# Altium integrated library TI Data Converters Analog to Digital Converter.IntLib: 2198 symbols (part 74 of 164)
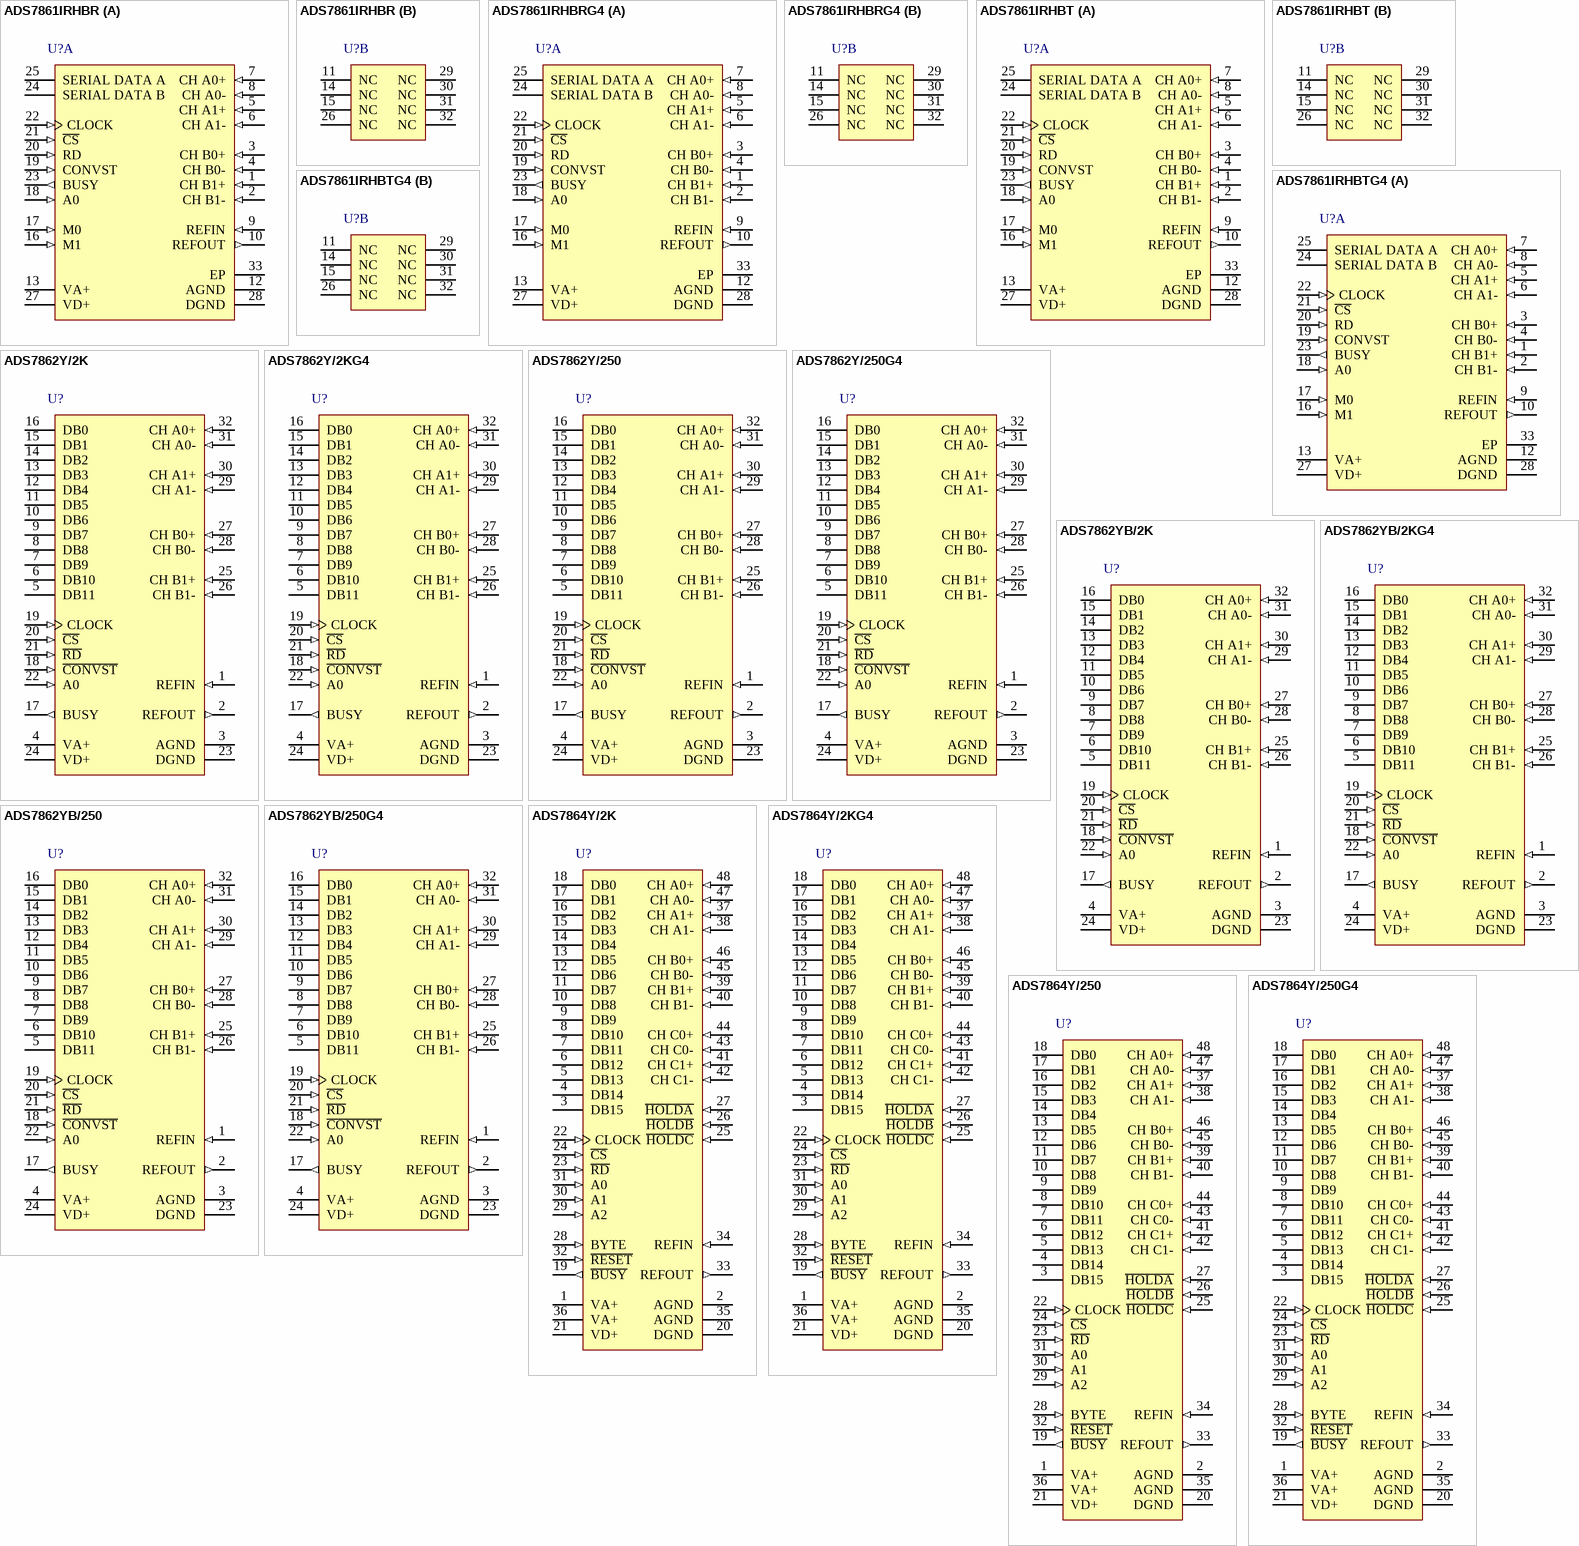
[diagram p199: symbols ADS7861IRHBR to ADS7864Y/250G4]

## ADS7862Y/2KG4
designator U?
Dual, 500 kHz, 12-Bit, 4-Channel Simultaneous Sampling ADC, -40 to 85 degC, 32-pin QFP (PBS32), Green (RoHS & no Sb/Br); Manufacturer: Texas Instruments; PartNumber: ADS7862Y/2KG4; # Input Channels: 4; Analog Voltage AV/DD(Max)(V): 5.25; Analog Voltage AV/DD(Min)(V): 4.75; Architecture: SAR; INL(Max)(+/-LSB): 2; Interface: Parallel CMOS; Resolution(Bits): 12; Sample Rate (max)(SPS): 500K; SFDR(dB): 78; SINAD(dB): 71; SubFamily: Precision ADC (<=10MSPS); DatasheetVersion: SBAS101B; PackageVersion: 4087735/B, 07/2005; PackageReference: PBS32; PackageDescription: 32-Pin Plastic Flat Pack, Body 5 X 5 mm, Pitch 0.5 mm; Supplier 1: Digi-Key; Supplier Part Number 1: ADS7861IBRHBR-ND; Digital Supply(Max)(V): 5.25; Digital Supply(Min)(V): 4.75; Eco-Plan: Green (RoHS & no Sb/Br); SNR(dB): 71; Mounting Technology: Surface Mount; Code_JEDEC: MS-026; ComponentLink1Description: Manufacturer URL; ComponentLink1URL: http://www.ti.com/; ComponentLink2Description: Datasheet; ComponentLink2URL: http://www.ti.com/general/docs/lit/getliterature.tsp?genericPartNumber=ADS7862&fileType=pdf; ComponentLink3Description: Package Specification; ComponentLink3URL: http://www.ti.com/lit/ml/mpqf027a/mpqf027a.pdf
footprint TI-PBS32_N (QFP, 32-Leads, Body 5x5mm, Pitch 0.5mm, IPC Medium Density)
footprint TI-PBS32_L (QFP, 32-Leads, Body 5x5mm, Pitch 0.5mm, IPC High Density)
footprint TI-PBS32_M (QFP, 32-Leads, Body 5x5mm, Pitch 0.5mm, IPC Low Density)
pins: 1 REFIN (in) "Reference Input", 2 REFOUT (out) "+2.5V Reference Output. Connect directly to REFIN (pin 1) when using internal reference.", 3 AGND (power) "Analog Ground", 4 VA+ (power) "Analog Power Supply, +5VDC. Connect directly to digital power supply (pin 24). Decouple to analog ground with a 0.1uF ceramic capacitor and a 10uF tantalum capacitor.", 5 DB11 (hiz) "Data Bit 11, MSB", 6 DB10 (hiz) "Data Bit 10", 7 DB9 (hiz) "Data Bit 9", 8 DB8 (hiz) "Data Bit 8", 9 DB7 (hiz) "Data Bit 7", 10 DB6 (hiz) "Data Bit 6", 11 DB5 (hiz) "Data Bit 5", 12 DB4 (hiz) "Data Bit 4", 13 DB3 (hiz) "Data Bit 3", 14 DB2 (hiz) "Data Bit 2", 15 DB1 (hiz) "Data Bit 1", 16 DB0 (hiz) "Data Bit 0, LSB", 17 BUSY (out) "HIGH when a conversion is in progress.", 18 ~{CONVST} (in) "Convert Start", 19 CLOCK (in) "An external CMOS-compatible clock can be applied to the CLOCK input to synchronize the conversion process to an external source. The CLOCK pin controls the sampling rate by the equation: CLOCK 16 X fSAMPLE.", 20 ~{CS} (in) "Chip Select", 21 ~{RD} (in) "Synchronization pulse for the parallel output. During a Read operation, the first falling edge selects the A register and the second edge selects the B register, A0, then controls whether input 0 or input 1 is read.", 22 A0 (in) "On the falling edge of Convert Start, when A0 is LOW Channel A0 and Channel B0 are converted and when it is HIGH, Channel A1 and Channel B1 are converted. During a Read operation, the first falling edge selects the A (See Datasheet)", 23 DGND (power) "Digital Ground. Connect directly to analog ground (pin 3).", 24 VD+ (power) "Digital Power Supply, +5VDC", 25 CH B1+ (in) "Non-Inverting Input Channel B1", 26 CH B1- (in) "Inverting Input Channel B1", 27 CH B0+ (in) "Non-Inverting Input Channel B0", 28 CH B0- (in) "Inverting Input Channel B0", 29 CH A1- (in) "Inverting Input Channel A1", 30 CH A1+ (in) "Non-Inverting Input Channel A1", 31 CH A0- (in) "Inverting Input Channel A0", 32 CH A0+ (in) "Non-Inverting Input Channel A0"

## ADS7862Y/250
designator U?
Dual, 500 kHz, 12-Bit, 4-Channel Simultaneous Sampling ADC, -40 to 85 degC, 32-pin QFP (PBS32), Green (RoHS & no Sb/Br); Manufacturer: Texas Instruments; PartNumber: ADS7862Y/250; # Input Channels: 4; Analog Voltage AV/DD(Max)(V): 5.25; Analog Voltage AV/DD(Min)(V): 4.75; Architecture: SAR; INL(Max)(+/-LSB): 2; Interface: Parallel CMOS; Resolution(Bits): 12; Sample Rate (max)(SPS): 500K; SFDR(dB): 78; SINAD(dB): 71; SubFamily: Precision ADC (<=10MSPS); DatasheetVersion: SBAS101B; PackageVersion: 4087735/B, 07/2005; PackageReference: PBS32; PackageDescription: 32-Pin Plastic Flat Pack, Body 5 X 5 mm, Pitch 0.5 mm; Supplier 1: Digi-Key; Supplier Part Number 1: ADS7861IBRHBRG4-ND; Digital Supply(Max)(V): 5.25; Digital Supply(Min)(V): 4.75; Eco-Plan: Green (RoHS & no Sb/Br); SNR(dB): 71; Mounting Technology: Surface Mount; Code_JEDEC: MS-026; ComponentLink1Description: Manufacturer URL; ComponentLink1URL: http://www.ti.com/; ComponentLink2Description: Datasheet; ComponentLink2URL: http://www.ti.com/general/docs/lit/getliterature.tsp?genericPartNumber=ADS7862&fileType=pdf; ComponentLink3Description: Package Specification; ComponentLink3URL: http://www.ti.com/lit/ml/mpqf027a/mpqf027a.pdf
footprint TI-PBS32_N (QFP, 32-Leads, Body 5x5mm, Pitch 0.5mm, IPC Medium Density)
footprint TI-PBS32_L (QFP, 32-Leads, Body 5x5mm, Pitch 0.5mm, IPC High Density)
footprint TI-PBS32_M (QFP, 32-Leads, Body 5x5mm, Pitch 0.5mm, IPC Low Density)
pins: 1 REFIN (in) "Reference Input", 2 REFOUT (out) "+2.5V Reference Output. Connect directly to REFIN (pin 1) when using internal reference.", 3 AGND (power) "Analog Ground", 4 VA+ (power) "Analog Power Supply, +5VDC. Connect directly to digital power supply (pin 24). Decouple to analog ground with a 0.1uF ceramic capacitor and a 10uF tantalum capacitor.", 5 DB11 (hiz) "Data Bit 11, MSB", 6 DB10 (hiz) "Data Bit 10", 7 DB9 (hiz) "Data Bit 9", 8 DB8 (hiz) "Data Bit 8", 9 DB7 (hiz) "Data Bit 7", 10 DB6 (hiz) "Data Bit 6", 11 DB5 (hiz) "Data Bit 5", 12 DB4 (hiz) "Data Bit 4", 13 DB3 (hiz) "Data Bit 3", 14 DB2 (hiz) "Data Bit 2", 15 DB1 (hiz) "Data Bit 1", 16 DB0 (hiz) "Data Bit 0, LSB", 17 BUSY (out) "HIGH when a conversion is in progress.", 18 ~{CONVST} (in) "Convert Start", 19 CLOCK (in) "An external CMOS-compatible clock can be applied to the CLOCK input to synchronize the conversion process to an external source. The CLOCK pin controls the sampling rate by the equation: CLOCK 16 X fSAMPLE.", 20 ~{CS} (in) "Chip Select", 21 ~{RD} (in) "Synchronization pulse for the parallel output. During a Read operation, the first falling edge selects the A register and the second edge selects the B register, A0, then controls whether input 0 or input 1 is read.", 22 A0 (in) "On the falling edge of Convert Start, when A0 is LOW Channel A0 and Channel B0 are converted and when it is HIGH, Channel A1 and Channel B1 are converted. During a Read operation, the first falling edge selects the A (See Datasheet)", 23 DGND (power) "Digital Ground. Connect directly to analog ground (pin 3).", 24 VD+ (power) "Digital Power Supply, +5VDC", 25 CH B1+ (in) "Non-Inverting Input Channel B1", 26 CH B1- (in) "Inverting Input Channel B1", 27 CH B0+ (in) "Non-Inverting Input Channel B0", 28 CH B0- (in) "Inverting Input Channel B0", 29 CH A1- (in) "Inverting Input Channel A1", 30 CH A1+ (in) "Non-Inverting Input Channel A1", 31 CH A0- (in) "Inverting Input Channel A0", 32 CH A0+ (in) "Non-Inverting Input Channel A0"

## ADS7862Y/250G4
designator U?
Dual, 500 kHz, 12-Bit, 4-Channel Simultaneous Sampling ADC, -40 to 85 degC, 32-pin QFP (PBS32), Green (RoHS & no Sb/Br); Manufacturer: Texas Instruments; PartNumber: ADS7862Y/250G4; # Input Channels: 4; Analog Voltage AV/DD(Max)(V): 5.25; Analog Voltage AV/DD(Min)(V): 4.75; Architecture: SAR; INL(Max)(+/-LSB): 2; Interface: Parallel CMOS; Resolution(Bits): 12; Sample Rate (max)(SPS): 500K; SFDR(dB): 78; SINAD(dB): 71; SubFamily: Precision ADC (<=10MSPS); DatasheetVersion: SBAS101B; PackageVersion: 4087735/B, 07/2005; PackageReference: PBS32; PackageDescription: 32-Pin Plastic Flat Pack, Body 5 X 5 mm, Pitch 0.5 mm; Supplier 1: Digi-Key; Supplier Part Number 1: 296-19570-2-ND; Digital Supply(Max)(V): 5.25; Digital Supply(Min)(V): 4.75; Eco-Plan: Green (RoHS & no Sb/Br); SNR(dB): 71; Mounting Technology: Surface Mount; Code_JEDEC: MS-026; ComponentLink1Description: Manufacturer URL; ComponentLink1URL: http://www.ti.com/; ComponentLink2Description: Datasheet; ComponentLink2URL: http://www.ti.com/general/docs/lit/getliterature.tsp?genericPartNumber=ADS7862&fileType=pdf; ComponentLink3Description: Package Specification; ComponentLink3URL: http://www.ti.com/lit/ml/mpqf027a/mpqf027a.pdf
footprint TI-PBS32_N (QFP, 32-Leads, Body 5x5mm, Pitch 0.5mm, IPC Medium Density)
footprint TI-PBS32_L (QFP, 32-Leads, Body 5x5mm, Pitch 0.5mm, IPC High Density)
footprint TI-PBS32_M (QFP, 32-Leads, Body 5x5mm, Pitch 0.5mm, IPC Low Density)
pins: 1 REFIN (in) "Reference Input", 2 REFOUT (out) "+2.5V Reference Output. Connect directly to REFIN (pin 1) when using internal reference.", 3 AGND (power) "Analog Ground", 4 VA+ (power) "Analog Power Supply, +5VDC. Connect directly to digital power supply (pin 24). Decouple to analog ground with a 0.1uF ceramic capacitor and a 10uF tantalum capacitor.", 5 DB11 (hiz) "Data Bit 11, MSB", 6 DB10 (hiz) "Data Bit 10", 7 DB9 (hiz) "Data Bit 9", 8 DB8 (hiz) "Data Bit 8", 9 DB7 (hiz) "Data Bit 7", 10 DB6 (hiz) "Data Bit 6", 11 DB5 (hiz) "Data Bit 5", 12 DB4 (hiz) "Data Bit 4", 13 DB3 (hiz) "Data Bit 3", 14 DB2 (hiz) "Data Bit 2", 15 DB1 (hiz) "Data Bit 1", 16 DB0 (hiz) "Data Bit 0, LSB", 17 BUSY (out) "HIGH when a conversion is in progress.", 18 ~{CONVST} (in) "Convert Start", 19 CLOCK (in) "An external CMOS-compatible clock can be applied to the CLOCK input to synchronize the conversion process to an external source. The CLOCK pin controls the sampling rate by the equation: CLOCK 16 X fSAMPLE.", 20 ~{CS} (in) "Chip Select", 21 ~{RD} (in) "Synchronization pulse for the parallel output. During a Read operation, the first falling edge selects the A register and the second edge selects the B register, A0, then controls whether input 0 or input 1 is read.", 22 A0 (in) "On the falling edge of Convert Start, when A0 is LOW Channel A0 and Channel B0 are converted and when it is HIGH, Channel A1 and Channel B1 are converted. During a Read operation, the first falling edge selects the A (See Datasheet)", 23 DGND (power) "Digital Ground. Connect directly to analog ground (pin 3).", 24 VD+ (power) "Digital Power Supply, +5VDC", 25 CH B1+ (in) "Non-Inverting Input Channel B1", 26 CH B1- (in) "Inverting Input Channel B1", 27 CH B0+ (in) "Non-Inverting Input Channel B0", 28 CH B0- (in) "Inverting Input Channel B0", 29 CH A1- (in) "Inverting Input Channel A1", 30 CH A1+ (in) "Non-Inverting Input Channel A1", 31 CH A0- (in) "Inverting Input Channel A0", 32 CH A0+ (in) "Non-Inverting Input Channel A0"

## ADS7862YB/2K
designator U?
Dual, 500 kHz, 12-Bit, 4-Channel Simultaneous Sampling ADC, -40 to 85 degC, 32-pin QFP (PBS32), Green (RoHS & no Sb/Br); Manufacturer: Texas Instruments; PartNumber: ADS7862YB/2K; # Input Channels: 4; Analog Voltage AV/DD(Max)(V): 5.25; Analog Voltage AV/DD(Min)(V): 4.75; Architecture: SAR; INL(Max)(+/-LSB): 1; Interface: Parallel CMOS; Resolution(Bits): 12; Sample Rate (max)(SPS): 500K; SFDR(dB): 78; SINAD(dB): 71; SubFamily: Precision ADC (<=10MSPS); DatasheetVersion: SBAS101B; PackageVersion: 4087735/B, 07/2005; PackageReference: PBS32; PackageDescription: 32-Pin Plastic Flat Pack, Body 5 X 5 mm, Pitch 0.5 mm; Supplier 1: Digi-Key; Supplier Part Number 1: ADS7861IBRHBTG4-ND; Digital Supply(Max)(V): 5.25; Digital Supply(Min)(V): 4.75; Eco-Plan: Green (RoHS & no Sb/Br); SNR(dB): 71; Mounting Technology: Surface Mount; Code_JEDEC: MS-026; ComponentLink1Description: Manufacturer URL; ComponentLink1URL: http://www.ti.com/; ComponentLink2Description: Datasheet; ComponentLink2URL: http://www.ti.com/general/docs/lit/getliterature.tsp?genericPartNumber=ADS7862&fileType=pdf; ComponentLink3Description: Package Specification; ComponentLink3URL: http://www.ti.com/lit/ml/mpqf027a/mpqf027a.pdf
footprint TI-PBS32_N (QFP, 32-Leads, Body 5x5mm, Pitch 0.5mm, IPC Medium Density)
footprint TI-PBS32_L (QFP, 32-Leads, Body 5x5mm, Pitch 0.5mm, IPC High Density)
footprint TI-PBS32_M (QFP, 32-Leads, Body 5x5mm, Pitch 0.5mm, IPC Low Density)
pins: 1 REFIN (in) "Reference Input", 2 REFOUT (out) "+2.5V Reference Output. Connect directly to REFIN (pin 1) when using internal reference.", 3 AGND (power) "Analog Ground", 4 VA+ (power) "Analog Power Supply, +5VDC. Connect directly to digital power supply (pin 24). Decouple to analog ground with a 0.1uF ceramic capacitor and a 10uF tantalum capacitor.", 5 DB11 (hiz) "Data Bit 11, MSB", 6 DB10 (hiz) "Data Bit 10", 7 DB9 (hiz) "Data Bit 9", 8 DB8 (hiz) "Data Bit 8", 9 DB7 (hiz) "Data Bit 7", 10 DB6 (hiz) "Data Bit 6", 11 DB5 (hiz) "Data Bit 5", 12 DB4 (hiz) "Data Bit 4", 13 DB3 (hiz) "Data Bit 3", 14 DB2 (hiz) "Data Bit 2", 15 DB1 (hiz) "Data Bit 1", 16 DB0 (hiz) "Data Bit 0, LSB", 17 BUSY (out) "HIGH when a conversion is in progress.", 18 ~{CONVST} (in) "Convert Start", 19 CLOCK (in) "An external CMOS-compatible clock can be applied to the CLOCK input to synchronize the conversion process to an external source. The CLOCK pin controls the sampling rate by the equation: CLOCK 16 X fSAMPLE.", 20 ~{CS} (in) "Chip Select", 21 ~{RD} (in) "Synchronization pulse for the parallel output. During a Read operation, the first falling edge selects the A register and the second edge selects the B register, A0, then controls whether input 0 or input 1 is read.", 22 A0 (in) "On the falling edge of Convert Start, when A0 is LOW Channel A0 and Channel B0 are converted and when it is HIGH, Channel A1 and Channel B1 are converted. During a Read operation, the first falling edge selects the A (See Datasheet)", 23 DGND (power) "Digital Ground. Connect directly to analog ground (pin 3).", 24 VD+ (power) "Digital Power Supply, +5VDC", 25 CH B1+ (in) "Non-Inverting Input Channel B1", 26 CH B1- (in) "Inverting Input Channel B1", 27 CH B0+ (in) "Non-Inverting Input Channel B0", 28 CH B0- (in) "Inverting Input Channel B0", 29 CH A1- (in) "Inverting Input Channel A1", 30 CH A1+ (in) "Non-Inverting Input Channel A1", 31 CH A0- (in) "Inverting Input Channel A0", 32 CH A0+ (in) "Non-Inverting Input Channel A0"

## ADS7862YB/2KG4
designator U?
Dual, 500 kHz, 12-Bit, 4-Channel Simultaneous Sampling ADC, -40 to 85 degC, 32-pin QFP (PBS32), Green (RoHS & no Sb/Br); Manufacturer: Texas Instruments; PartNumber: ADS7862YB/2KG4; # Input Channels: 4; Analog Voltage AV/DD(Max)(V): 5.25; Analog Voltage AV/DD(Min)(V): 4.75; Architecture: SAR; INL(Max)(+/-LSB): 1; Interface: Parallel CMOS; Resolution(Bits): 12; Sample Rate (max)(SPS): 500K; SFDR(dB): 78; SINAD(dB): 71; SubFamily: Precision ADC (<=10MSPS); DatasheetVersion: SBAS101B; PackageVersion: 4087735/B, 07/2005; PackageReference: PBS32; PackageDescription: 32-Pin Plastic Flat Pack, Body 5 X 5 mm, Pitch 0.5 mm; Supplier 1: Digi-Key; Supplier Part Number 1: ADS7861IRHBR-ND; Digital Supply(Max)(V): 5.25; Digital Supply(Min)(V): 4.75; Eco-Plan: Green (RoHS & no Sb/Br); SNR(dB): 71; Mounting Technology: Surface Mount; Code_JEDEC: MS-026; ComponentLink1Description: Manufacturer URL; ComponentLink1URL: http://www.ti.com/; ComponentLink2Description: Datasheet; ComponentLink2URL: http://www.ti.com/general/docs/lit/getliterature.tsp?genericPartNumber=ADS7862&fileType=pdf; ComponentLink3Description: Package Specification; ComponentLink3URL: http://www.ti.com/lit/ml/mpqf027a/mpqf027a.pdf
footprint TI-PBS32_N (QFP, 32-Leads, Body 5x5mm, Pitch 0.5mm, IPC Medium Density)
footprint TI-PBS32_L (QFP, 32-Leads, Body 5x5mm, Pitch 0.5mm, IPC High Density)
footprint TI-PBS32_M (QFP, 32-Leads, Body 5x5mm, Pitch 0.5mm, IPC Low Density)
pins: 1 REFIN (in) "Reference Input", 2 REFOUT (out) "+2.5V Reference Output. Connect directly to REFIN (pin 1) when using internal reference.", 3 AGND (power) "Analog Ground", 4 VA+ (power) "Analog Power Supply, +5VDC. Connect directly to digital power supply (pin 24). Decouple to analog ground with a 0.1uF ceramic capacitor and a 10uF tantalum capacitor.", 5 DB11 (hiz) "Data Bit 11, MSB", 6 DB10 (hiz) "Data Bit 10", 7 DB9 (hiz) "Data Bit 9", 8 DB8 (hiz) "Data Bit 8", 9 DB7 (hiz) "Data Bit 7", 10 DB6 (hiz) "Data Bit 6", 11 DB5 (hiz) "Data Bit 5", 12 DB4 (hiz) "Data Bit 4", 13 DB3 (hiz) "Data Bit 3", 14 DB2 (hiz) "Data Bit 2", 15 DB1 (hiz) "Data Bit 1", 16 DB0 (hiz) "Data Bit 0, LSB", 17 BUSY (out) "HIGH when a conversion is in progress.", 18 ~{CONVST} (in) "Convert Start", 19 CLOCK (in) "An external CMOS-compatible clock can be applied to the CLOCK input to synchronize the conversion process to an external source. The CLOCK pin controls the sampling rate by the equation: CLOCK 16 X fSAMPLE.", 20 ~{CS} (in) "Chip Select", 21 ~{RD} (in) "Synchronization pulse for the parallel output. During a Read operation, the first falling edge selects the A register and the second edge selects the B register, A0, then controls whether input 0 or input 1 is read.", 22 A0 (in) "On the falling edge of Convert Start, when A0 is LOW Channel A0 and Channel B0 are converted and when it is HIGH, Channel A1 and Channel B1 are converted. During a Read operation, the first falling edge selects the A (See Datasheet)", 23 DGND (power) "Digital Ground. Connect directly to analog ground (pin 3).", 24 VD+ (power) "Digital Power Supply, +5VDC", 25 CH B1+ (in) "Non-Inverting Input Channel B1", 26 CH B1- (in) "Inverting Input Channel B1", 27 CH B0+ (in) "Non-Inverting Input Channel B0", 28 CH B0- (in) "Inverting Input Channel B0", 29 CH A1- (in) "Inverting Input Channel A1", 30 CH A1+ (in) "Non-Inverting Input Channel A1", 31 CH A0- (in) "Inverting Input Channel A0", 32 CH A0+ (in) "Non-Inverting Input Channel A0"

## ADS7862YB/250
designator U?
Dual, 500 kHz, 12-Bit, 4-Channel Simultaneous Sampling ADC, -40 to 85 degC, 32-pin QFP (PBS32), Green (RoHS & no Sb/Br); Manufacturer: Texas Instruments; PartNumber: ADS7862YB/250; # Input Channels: 4; Analog Voltage AV/DD(Max)(V): 5.25; Analog Voltage AV/DD(Min)(V): 4.75; Architecture: SAR; INL(Max)(+/-LSB): 1; Interface: Parallel CMOS; Resolution(Bits): 12; Sample Rate (max)(SPS): 500K; SFDR(dB): 78; SINAD(dB): 71; SubFamily: Precision ADC (<=10MSPS); DatasheetVersion: SBAS101B; PackageVersion: 4087735/B, 07/2005; PackageReference: PBS32; PackageDescription: 32-Pin Plastic Flat Pack, Body 5 X 5 mm, Pitch 0.5 mm; Supplier 1: Digi-Key; Supplier Part Number 1: ADS7861IRHBRG4-ND; Digital Supply(Max)(V): 5.25; Digital Supply(Min)(V): 4.75; Eco-Plan: Green (RoHS & no Sb/Br); SNR(dB): 71; Mounting Technology: Surface Mount; Code_JEDEC: MS-026; ComponentLink1Description: Manufacturer URL; ComponentLink1URL: http://www.ti.com/; ComponentLink2Description: Datasheet; ComponentLink2URL: http://www.ti.com/general/docs/lit/getliterature.tsp?genericPartNumber=ADS7862&fileType=pdf; ComponentLink3Description: Package Specification; ComponentLink3URL: http://www.ti.com/lit/ml/mpqf027a/mpqf027a.pdf
footprint TI-PBS32_N (QFP, 32-Leads, Body 5x5mm, Pitch 0.5mm, IPC Medium Density)
footprint TI-PBS32_L (QFP, 32-Leads, Body 5x5mm, Pitch 0.5mm, IPC High Density)
footprint TI-PBS32_M (QFP, 32-Leads, Body 5x5mm, Pitch 0.5mm, IPC Low Density)
pins: 1 REFIN (in) "Reference Input", 2 REFOUT (out) "+2.5V Reference Output. Connect directly to REFIN (pin 1) when using internal reference.", 3 AGND (power) "Analog Ground", 4 VA+ (power) "Analog Power Supply, +5VDC. Connect directly to digital power supply (pin 24). Decouple to analog ground with a 0.1uF ceramic capacitor and a 10uF tantalum capacitor.", 5 DB11 (hiz) "Data Bit 11, MSB", 6 DB10 (hiz) "Data Bit 10", 7 DB9 (hiz) "Data Bit 9", 8 DB8 (hiz) "Data Bit 8", 9 DB7 (hiz) "Data Bit 7", 10 DB6 (hiz) "Data Bit 6", 11 DB5 (hiz) "Data Bit 5", 12 DB4 (hiz) "Data Bit 4", 13 DB3 (hiz) "Data Bit 3", 14 DB2 (hiz) "Data Bit 2", 15 DB1 (hiz) "Data Bit 1", 16 DB0 (hiz) "Data Bit 0, LSB", 17 BUSY (out) "HIGH when a conversion is in progress.", 18 ~{CONVST} (in) "Convert Start", 19 CLOCK (in) "An external CMOS-compatible clock can be applied to the CLOCK input to synchronize the conversion process to an external source. The CLOCK pin controls the sampling rate by the equation: CLOCK 16 X fSAMPLE.", 20 ~{CS} (in) "Chip Select", 21 ~{RD} (in) "Synchronization pulse for the parallel output. During a Read operation, the first falling edge selects the A register and the second edge selects the B register, A0, then controls whether input 0 or input 1 is read.", 22 A0 (in) "On the falling edge of Convert Start, when A0 is LOW Channel A0 and Channel B0 are converted and when it is HIGH, Channel A1 and Channel B1 are converted. During a Read operation, the first falling edge selects the A (See Datasheet)", 23 DGND (power) "Digital Ground. Connect directly to analog ground (pin 3).", 24 VD+ (power) "Digital Power Supply, +5VDC", 25 CH B1+ (in) "Non-Inverting Input Channel B1", 26 CH B1- (in) "Inverting Input Channel B1", 27 CH B0+ (in) "Non-Inverting Input Channel B0", 28 CH B0- (in) "Inverting Input Channel B0", 29 CH A1- (in) "Inverting Input Channel A1", 30 CH A1+ (in) "Non-Inverting Input Channel A1", 31 CH A0- (in) "Inverting Input Channel A0", 32 CH A0+ (in) "Non-Inverting Input Channel A0"

## ADS7862YB/250G4
designator U?
Dual, 500 kHz, 12-Bit, 4-Channel Simultaneous Sampling ADC, -40 to 85 degC, 32-pin QFP (PBS32), Green (RoHS & no Sb/Br); Manufacturer: Texas Instruments; PartNumber: ADS7862YB/250G4; # Input Channels: 4; Analog Voltage AV/DD(Max)(V): 5.25; Analog Voltage AV/DD(Min)(V): 4.75; Architecture: SAR; INL(Max)(+/-LSB): 1; Interface: Parallel CMOS; Resolution(Bits): 12; Sample Rate (max)(SPS): 500K; SFDR(dB): 78; SINAD(dB): 71; SubFamily: Precision ADC (<=10MSPS); DatasheetVersion: SBAS101B; PackageVersion: 4087735/B, 07/2005; PackageReference: PBS32; PackageDescription: 32-Pin Plastic Flat Pack, Body 5 X 5 mm, Pitch 0.5 mm; Supplier 1: Digi-Key; Supplier Part Number 1: 296-19571-2-ND; Digital Supply(Max)(V): 5.25; Digital Supply(Min)(V): 4.75; Eco-Plan: Green (RoHS & no Sb/Br); SNR(dB): 71; Mounting Technology: Surface Mount; Code_JEDEC: MS-026; ComponentLink1Description: Manufacturer URL; ComponentLink1URL: http://www.ti.com/; ComponentLink2Description: Datasheet; ComponentLink2URL: http://www.ti.com/general/docs/lit/getliterature.tsp?genericPartNumber=ADS7862&fileType=pdf; ComponentLink3Description: Package Specification; ComponentLink3URL: http://www.ti.com/lit/ml/mpqf027a/mpqf027a.pdf
footprint TI-PBS32_N (QFP, 32-Leads, Body 5x5mm, Pitch 0.5mm, IPC Medium Density)
footprint TI-PBS32_L (QFP, 32-Leads, Body 5x5mm, Pitch 0.5mm, IPC High Density)
footprint TI-PBS32_M (QFP, 32-Leads, Body 5x5mm, Pitch 0.5mm, IPC Low Density)
pins: 1 REFIN (in) "Reference Input", 2 REFOUT (out) "+2.5V Reference Output. Connect directly to REFIN (pin 1) when using internal reference.", 3 AGND (power) "Analog Ground", 4 VA+ (power) "Analog Power Supply, +5VDC. Connect directly to digital power supply (pin 24). Decouple to analog ground with a 0.1uF ceramic capacitor and a 10uF tantalum capacitor.", 5 DB11 (hiz) "Data Bit 11, MSB", 6 DB10 (hiz) "Data Bit 10", 7 DB9 (hiz) "Data Bit 9", 8 DB8 (hiz) "Data Bit 8", 9 DB7 (hiz) "Data Bit 7", 10 DB6 (hiz) "Data Bit 6", 11 DB5 (hiz) "Data Bit 5", 12 DB4 (hiz) "Data Bit 4", 13 DB3 (hiz) "Data Bit 3", 14 DB2 (hiz) "Data Bit 2", 15 DB1 (hiz) "Data Bit 1", 16 DB0 (hiz) "Data Bit 0, LSB", 17 BUSY (out) "HIGH when a conversion is in progress.", 18 ~{CONVST} (in) "Convert Start", 19 CLOCK (in) "An external CMOS-compatible clock can be applied to the CLOCK input to synchronize the conversion process to an external source. The CLOCK pin controls the sampling rate by the equation: CLOCK 16 X fSAMPLE.", 20 ~{CS} (in) "Chip Select", 21 ~{RD} (in) "Synchronization pulse for the parallel output. During a Read operation, the first falling edge selects the A register and the second edge selects the B register, A0, then controls whether input 0 or input 1 is read.", 22 A0 (in) "On the falling edge of Convert Start, when A0 is LOW Channel A0 and Channel B0 are converted and when it is HIGH, Channel A1 and Channel B1 are converted. During a Read operation, the first falling edge selects the A (See Datasheet)", 23 DGND (power) "Digital Ground. Connect directly to analog ground (pin 3).", 24 VD+ (power) "Digital Power Supply, +5VDC", 25 CH B1+ (in) "Non-Inverting Input Channel B1", 26 CH B1- (in) "Inverting Input Channel B1", 27 CH B0+ (in) "Non-Inverting Input Channel B0", 28 CH B0- (in) "Inverting Input Channel B0", 29 CH A1- (in) "Inverting Input Channel A1", 30 CH A1+ (in) "Non-Inverting Input Channel A1", 31 CH A0- (in) "Inverting Input Channel A0", 32 CH A0+ (in) "Non-Inverting Input Channel A0"

## ADS7864Y/2K
designator U?
500 kHz, 12-Bit, 6-Channel Simultaneous Sampling ADC, -40 to 85 degC, 48-pin QFP (PFB48), Green (RoHS & no Sb/Br); Manufacturer: Texas Instruments; PartNumber: ADS7864Y/2K; # Input Channels: 6; Analog Voltage AV/DD(Max)(V): 5.25; Analog Voltage AV/DD(Min)(V): 4.75; Architecture: SAR; INL(Max)(+/-LSB): 2; Interface: Parallel CMOS; Resolution(Bits): 12; Sample Rate (max)(SPS): 500k; SFDR(dB): 78; SINAD(dB): 71; SubFamily: Precision ADC (<=10MSPS); DatasheetVersion: SBAS141A; PackageVersion: 4073176/B, 10/1996; PackageReference: PFB48; PackageDescription: 48-Pin Plastic Flat Pack, Body 7 x 7 mm, Pitch 0.5 mm; Supplier 1: Digi-Key; Supplier Part Number 1: ADS7861IRHBTG4-ND; Digital Supply(Max)(V): 5.25; Digital Supply(Min)(V): 4.75; Eco-Plan: Green (RoHS & no Sb/Br); Mounting Technology: Surface Mount; Code_JEDEC: MS-026; ComponentLink1Description: Manufacturer URL; ComponentLink1URL: http://www.ti.com/; ComponentLink2Description: Datasheet; ComponentLink2URL: http://www.ti.com/general/docs/lit/getliterature.tsp?genericPartNumber=ADS7864&fileType=pdf; ComponentLink3Description: Package Specification; ComponentLink3URL: http://www.ti.com/lit/ml/mtqf019a/mtqf019a.pdf
footprint TI-PFB48_N (QFP, 48-Leads, Body 7x7mm, Pitch 0.5mm, IPC Medium Density)
footprint TI-PFB48_L (QFP, 48-Leads, Body 7x7mm, Pitch 0.5mm, IPC High Density)
footprint TI-PFB48_M (QFP, 48-Leads, Body 7x7mm, Pitch 0.5mm, IPC Low Density)
pins: 1 VA+ (power) "Analog Power Supply. Normally +5V.", 2 AGND (power) "Analog Ground", 3 DB15 (hiz) "Data Valid Output: ‘1’ for data valid; ‘0’ for invalid data.", 4 DB14 (hiz) "Channel Address Output Pin (see Table 2)", 5 DB13 (hiz) "Channel Address Output Pin (see Table 2)", 6 DB12 (hiz) "Channel Address Output Pin (see Table 2)", 7 DB11 (hiz) "Data Bit 11 - MSB", 8 DB10 (hiz) "Data Bit 10", 9 DB9 (hiz) "Data Bit 9", 10 DB8 (hiz) "Data Bit 8", 11 DB7 (hiz) "Data Bit 7", 12 DB6 (hiz) "Data Bit 6", 13 DB5 (hiz) "Data Bit 5", 14 DB4 (hiz) "Data Bit 4", 15 DB3 (hiz) "Data Bit 3", 16 DB2 (hiz) "Data Bit 2", 17 DB1 (hiz) "Data Bit 1", 18 DB0 (hiz) "Data Bit 0 - LSB", 19 ~{BUSY} (out) "Low when a conversion is in progress.", 20 DGND (power) "Digital Ground", 21 VD+ (power) "Digital Power Supply, +5VDC", 22 CLOCK (in) "An external clock must be applied to the CLOCK input.", 23 ~{RD} (in) "RD Input. Enables the parallel output when used in conjunction with chip select.", 24 ~{CS} (in) "Chip Select", 25 ~{HOLDC} (in) "Places Channels C0 and C1 in hold mode.", 26 ~{HOLDB} (in) "Places Channels B0 and B1 in hold mode.", 27 ~{HOLDA} (in) "Places Channels A0 and A1 in hold mode.", 28 BYTE (in) "2 x 8 Output Capability. Active high.", 29 A2 (in) "A2 Address/Mode Select Pin (see Table 3).", 30 A1 (in) "A1 Address/Mode Select Pin (see Table 3).", 31 A0 (in) "A0 Address/Mode Select Pin (see Table 3).", 32 ~{RESET} (in) "Reset Pin", 33 REFOUT (out) "Reference Out", 34 REFIN (in) "Reference In", 35 AGND (power) "Analog Ground", 36 VA+ (power) "Analog Power Supply. Normally +5V.", 37 CH A1+ (in) "Noninverting Input Channel A1", 38 CH A1- (in) "Inverting Input Channel A1", 39 CH B1+ (in) "Noninverting Input Channel B1", 40 CH B1- (in) "Inverting Input Channel B1", 41 CH C1+ (in) "Noninverting Input Channel C1", 42 CH C1- (in) "Inverting Input Channel C1", 43 CH C0- (in) "Inverting Input Channel C0", 44 CH C0+ (in) "Noninverting Input Channel C0", 45 CH B0- (in) "Inverting Input Channel B0", 46 CH B0+ (in) "Noninverting Input Channel B0", 47 CH A0- (in) "Inverting Input Channel A0", 48 CH A0+ (in) "Noninverting Input Channel A0"

## ADS7864Y/2KG4
designator U?
500 kHz, 12-Bit, 6-Channel Simultaneous Sampling ADC, -40 to 85 degC, 48-pin QFP (PFB48), Green (RoHS & no Sb/Br); Manufacturer: Texas Instruments; PartNumber: ADS7864Y/2KG4; # Input Channels: 6; Analog Voltage AV/DD(Max)(V): 5.25; Analog Voltage AV/DD(Min)(V): 4.75; Architecture: SAR; INL(Max)(+/-LSB): 2; Interface: Parallel CMOS; Resolution(Bits): 12; Sample Rate (max)(SPS): 500k; SFDR(dB): 78; SINAD(dB): 71; SubFamily: Precision ADC (<=10MSPS); DatasheetVersion: SBAS141A; PackageVersion: 4073176/B, 10/1996; PackageReference: PFB48; PackageDescription: 48-Pin Plastic Flat Pack, Body 7 x 7 mm, Pitch 0.5 mm; Supplier 1: Digi-Key; Supplier Part Number 1: ADS7862YTR-ND; Digital Supply(Max)(V): 5.25; Digital Supply(Min)(V): 4.75; Eco-Plan: Green (RoHS & no Sb/Br); Mounting Technology: Surface Mount; Code_JEDEC: MS-026; ComponentLink1Description: Manufacturer URL; ComponentLink1URL: http://www.ti.com/; ComponentLink2Description: Datasheet; ComponentLink2URL: http://www.ti.com/general/docs/lit/getliterature.tsp?genericPartNumber=ADS7864&fileType=pdf; ComponentLink3Description: Package Specification; ComponentLink3URL: http://www.ti.com/lit/ml/mtqf019a/mtqf019a.pdf
footprint TI-PFB48_N (QFP, 48-Leads, Body 7x7mm, Pitch 0.5mm, IPC Medium Density)
footprint TI-PFB48_L (QFP, 48-Leads, Body 7x7mm, Pitch 0.5mm, IPC High Density)
footprint TI-PFB48_M (QFP, 48-Leads, Body 7x7mm, Pitch 0.5mm, IPC Low Density)
pins: 1 VA+ (power) "Analog Power Supply. Normally +5V.", 2 AGND (power) "Analog Ground", 3 DB15 (hiz) "Data Valid Output: ‘1’ for data valid; ‘0’ for invalid data.", 4 DB14 (hiz) "Channel Address Output Pin (see Table 2)", 5 DB13 (hiz) "Channel Address Output Pin (see Table 2)", 6 DB12 (hiz) "Channel Address Output Pin (see Table 2)", 7 DB11 (hiz) "Data Bit 11 - MSB", 8 DB10 (hiz) "Data Bit 10", 9 DB9 (hiz) "Data Bit 9", 10 DB8 (hiz) "Data Bit 8", 11 DB7 (hiz) "Data Bit 7", 12 DB6 (hiz) "Data Bit 6", 13 DB5 (hiz) "Data Bit 5", 14 DB4 (hiz) "Data Bit 4", 15 DB3 (hiz) "Data Bit 3", 16 DB2 (hiz) "Data Bit 2", 17 DB1 (hiz) "Data Bit 1", 18 DB0 (hiz) "Data Bit 0 - LSB", 19 ~{BUSY} (out) "Low when a conversion is in progress.", 20 DGND (power) "Digital Ground", 21 VD+ (power) "Digital Power Supply, +5VDC", 22 CLOCK (in) "An external clock must be applied to the CLOCK input.", 23 ~{RD} (in) "RD Input. Enables the parallel output when used in conjunction with chip select.", 24 ~{CS} (in) "Chip Select", 25 ~{HOLDC} (in) "Places Channels C0 and C1 in hold mode.", 26 ~{HOLDB} (in) "Places Channels B0 and B1 in hold mode.", 27 ~{HOLDA} (in) "Places Channels A0 and A1 in hold mode.", 28 BYTE (in) "2 x 8 Output Capability. Active high.", 29 A2 (in) "A2 Address/Mode Select Pin (see Table 3).", 30 A1 (in) "A1 Address/Mode Select Pin (see Table 3).", 31 A0 (in) "A0 Address/Mode Select Pin (see Table 3).", 32 ~{RESET} (in) "Reset Pin", 33 REFOUT (out) "Reference Out", 34 REFIN (in) "Reference In", 35 AGND (power) "Analog Ground", 36 VA+ (power) "Analog Power Supply. Normally +5V.", 37 CH A1+ (in) "Noninverting Input Channel A1", 38 CH A1- (in) "Inverting Input Channel A1", 39 CH B1+ (in) "Noninverting Input Channel B1", 40 CH B1- (in) "Inverting Input Channel B1", 41 CH C1+ (in) "Noninverting Input Channel C1", 42 CH C1- (in) "Inverting Input Channel C1", 43 CH C0- (in) "Inverting Input Channel C0", 44 CH C0+ (in) "Noninverting Input Channel C0", 45 CH B0- (in) "Inverting Input Channel B0", 46 CH B0+ (in) "Noninverting Input Channel B0", 47 CH A0- (in) "Inverting Input Channel A0", 48 CH A0+ (in) "Noninverting Input Channel A0"

## ADS7864Y/250
designator U?
500 kHz, 12-Bit, 6-Channel Simultaneous Sampling ADC, -40 to 85 degC, 48-pin QFP (PFB48), Green (RoHS & no Sb/Br); Manufacturer: Texas Instruments; PartNumber: ADS7864Y/250; # Input Channels: 6; Analog Voltage AV/DD(Max)(V): 5.25; Analog Voltage AV/DD(Min)(V): 4.75; Architecture: SAR; INL(Max)(+/-LSB): 2; Interface: Parallel CMOS; Resolution(Bits): 12; Sample Rate (max)(SPS): 500k; SFDR(dB): 78; SINAD(dB): 71; SubFamily: Precision ADC (<=10MSPS); DatasheetVersion: SBAS141A; PackageVersion: 4073176/B, 10/1996; PackageReference: PFB48; PackageDescription: 48-Pin Plastic Flat Pack, Body 7 x 7 mm, Pitch 0.5 mm; Supplier 1: Digi-Key; Supplier Part Number 1: ADS7862Y/250G4-ND; Digital Supply(Max)(V): 5.25; Digital Supply(Min)(V): 4.75; Eco-Plan: Green (RoHS & no Sb/Br); Mounting Technology: Surface Mount; Code_JEDEC: MS-026; ComponentLink1Description: Manufacturer URL; ComponentLink1URL: http://www.ti.com/; ComponentLink2Description: Datasheet; ComponentLink2URL: http://www.ti.com/general/docs/lit/getliterature.tsp?genericPartNumber=ADS7864&fileType=pdf; ComponentLink3Description: Package Specification; ComponentLink3URL: http://www.ti.com/lit/ml/mtqf019a/mtqf019a.pdf
footprint TI-PFB48_N (QFP, 48-Leads, Body 7x7mm, Pitch 0.5mm, IPC Medium Density)
footprint TI-PFB48_L (QFP, 48-Leads, Body 7x7mm, Pitch 0.5mm, IPC High Density)
footprint TI-PFB48_M (QFP, 48-Leads, Body 7x7mm, Pitch 0.5mm, IPC Low Density)
pins: 1 VA+ (power) "Analog Power Supply. Normally +5V.", 2 AGND (power) "Analog Ground", 3 DB15 (hiz) "Data Valid Output: ‘1’ for data valid; ‘0’ for invalid data.", 4 DB14 (hiz) "Channel Address Output Pin (see Table 2)", 5 DB13 (hiz) "Channel Address Output Pin (see Table 2)", 6 DB12 (hiz) "Channel Address Output Pin (see Table 2)", 7 DB11 (hiz) "Data Bit 11 - MSB", 8 DB10 (hiz) "Data Bit 10", 9 DB9 (hiz) "Data Bit 9", 10 DB8 (hiz) "Data Bit 8", 11 DB7 (hiz) "Data Bit 7", 12 DB6 (hiz) "Data Bit 6", 13 DB5 (hiz) "Data Bit 5", 14 DB4 (hiz) "Data Bit 4", 15 DB3 (hiz) "Data Bit 3", 16 DB2 (hiz) "Data Bit 2", 17 DB1 (hiz) "Data Bit 1", 18 DB0 (hiz) "Data Bit 0 - LSB", 19 ~{BUSY} (out) "Low when a conversion is in progress.", 20 DGND (power) "Digital Ground", 21 VD+ (power) "Digital Power Supply, +5VDC", 22 CLOCK (in) "An external clock must be applied to the CLOCK input.", 23 ~{RD} (in) "RD Input. Enables the parallel output when used in conjunction with chip select.", 24 ~{CS} (in) "Chip Select", 25 ~{HOLDC} (in) "Places Channels C0 and C1 in hold mode.", 26 ~{HOLDB} (in) "Places Channels B0 and B1 in hold mode.", 27 ~{HOLDA} (in) "Places Channels A0 and A1 in hold mode.", 28 BYTE (in) "2 x 8 Output Capability. Active high.", 29 A2 (in) "A2 Address/Mode Select Pin (see Table 3).", 30 A1 (in) "A1 Address/Mode Select Pin (see Table 3).", 31 A0 (in) "A0 Address/Mode Select Pin (see Table 3).", 32 ~{RESET} (in) "Reset Pin", 33 REFOUT (out) "Reference Out", 34 REFIN (in) "Reference In", 35 AGND (power) "Analog Ground", 36 VA+ (power) "Analog Power Supply. Normally +5V.", 37 CH A1+ (in) "Noninverting Input Channel A1", 38 CH A1- (in) "Inverting Input Channel A1", 39 CH B1+ (in) "Noninverting Input Channel B1", 40 CH B1- (in) "Inverting Input Channel B1", 41 CH C1+ (in) "Noninverting Input Channel C1", 42 CH C1- (in) "Inverting Input Channel C1", 43 CH C0- (in) "Inverting Input Channel C0", 44 CH C0+ (in) "Noninverting Input Channel C0", 45 CH B0- (in) "Inverting Input Channel B0", 46 CH B0+ (in) "Noninverting Input Channel B0", 47 CH A0- (in) "Inverting Input Channel A0", 48 CH A0+ (in) "Noninverting Input Channel A0"

## ADS7864Y/250G4
designator U?
500 kHz, 12-Bit, 6-Channel Simultaneous Sampling ADC, -40 to 85 degC, 48-pin QFP (PFB48), Green (RoHS & no Sb/Br); Manufacturer: Texas Instruments; PartNumber: ADS7864Y/250G4; # Input Channels: 6; Analog Voltage AV/DD(Max)(V): 5.25; Analog Voltage AV/DD(Min)(V): 4.75; Architecture: SAR; INL(Max)(+/-LSB): 2; Interface: Parallel CMOS; Resolution(Bits): 12; Sample Rate (max)(SPS): 500k; SFDR(dB): 78; SINAD(dB): 71; SubFamily: Precision ADC (<=10MSPS); DatasheetVersion: SBAS141A; PackageVersion: 4073176/B, 10/1996; PackageReference: PFB48; PackageDescription: 48-Pin Plastic Flat Pack, Body 7 x 7 mm, Pitch 0.5 mm; Supplier 1: Digi-Key; Supplier Part Number 1: ADS7862Y/2K-ND; Digital Supply(Max)(V): 5.25; Digital Supply(Min)(V): 4.75; Eco-Plan: Green (RoHS & no Sb/Br); Mounting Technology: Surface Mount; Code_JEDEC: MS-026; ComponentLink1Description: Manufacturer URL; ComponentLink1URL: http://www.ti.com/; ComponentLink2Description: Datasheet; ComponentLink2URL: http://www.ti.com/general/docs/lit/getliterature.tsp?genericPartNumber=ADS7864&fileType=pdf; ComponentLink3Description: Package Specification; ComponentLink3URL: http://www.ti.com/lit/ml/mtqf019a/mtqf019a.pdf
footprint TI-PFB48_N (QFP, 48-Leads, Body 7x7mm, Pitch 0.5mm, IPC Medium Density)
footprint TI-PFB48_L (QFP, 48-Leads, Body 7x7mm, Pitch 0.5mm, IPC High Density)
footprint TI-PFB48_M (QFP, 48-Leads, Body 7x7mm, Pitch 0.5mm, IPC Low Density)
pins: 1 VA+ (power) "Analog Power Supply. Normally +5V.", 2 AGND (power) "Analog Ground", 3 DB15 (hiz) "Data Valid Output: ‘1’ for data valid; ‘0’ for invalid data.", 4 DB14 (hiz) "Channel Address Output Pin (see Table 2)", 5 DB13 (hiz) "Channel Address Output Pin (see Table 2)", 6 DB12 (hiz) "Channel Address Output Pin (see Table 2)", 7 DB11 (hiz) "Data Bit 11 - MSB", 8 DB10 (hiz) "Data Bit 10", 9 DB9 (hiz) "Data Bit 9", 10 DB8 (hiz) "Data Bit 8", 11 DB7 (hiz) "Data Bit 7", 12 DB6 (hiz) "Data Bit 6", 13 DB5 (hiz) "Data Bit 5", 14 DB4 (hiz) "Data Bit 4", 15 DB3 (hiz) "Data Bit 3", 16 DB2 (hiz) "Data Bit 2", 17 DB1 (hiz) "Data Bit 1", 18 DB0 (hiz) "Data Bit 0 - LSB", 19 ~{BUSY} (out) "Low when a conversion is in progress.", 20 DGND (power) "Digital Ground", 21 VD+ (power) "Digital Power Supply, +5VDC", 22 CLOCK (in) "An external clock must be applied to the CLOCK input.", 23 ~{RD} (in) "RD Input. Enables the parallel output when used in conjunction with chip select.", 24 ~{CS} (in) "Chip Select", 25 ~{HOLDC} (in) "Places Channels C0 and C1 in hold mode.", 26 ~{HOLDB} (in) "Places Channels B0 and B1 in hold mode.", 27 ~{HOLDA} (in) "Places Channels A0 and A1 in hold mode.", 28 BYTE (in) "2 x 8 Output Capability. Active high.", 29 A2 (in) "A2 Address/Mode Select Pin (see Table 3).", 30 A1 (in) "A1 Address/Mode Select Pin (see Table 3).", 31 A0 (in) "A0 Address/Mode Select Pin (see Table 3).", 32 ~{RESET} (in) "Reset Pin", 33 REFOUT (out) "Reference Out", 34 REFIN (in) "Reference In", 35 AGND (power) "Analog Ground", 36 VA+ (power) "Analog Power Supply. Normally +5V.", 37 CH A1+ (in) "Noninverting Input Channel A1", 38 CH A1- (in) "Inverting Input Channel A1", 39 CH B1+ (in) "Noninverting Input Channel B1", 40 CH B1- (in) "Inverting Input Channel B1", 41 CH C1+ (in) "Noninverting Input Channel C1", 42 CH C1- (in) "Inverting Input Channel C1", 43 CH C0- (in) "Inverting Input Channel C0", 44 CH C0+ (in) "Noninverting Input Channel C0", 45 CH B0- (in) "Inverting Input Channel B0", 46 CH B0+ (in) "Noninverting Input Channel B0", 47 CH A0- (in) "Inverting Input Channel A0", 48 CH A0+ (in) "Noninverting Input Channel A0"

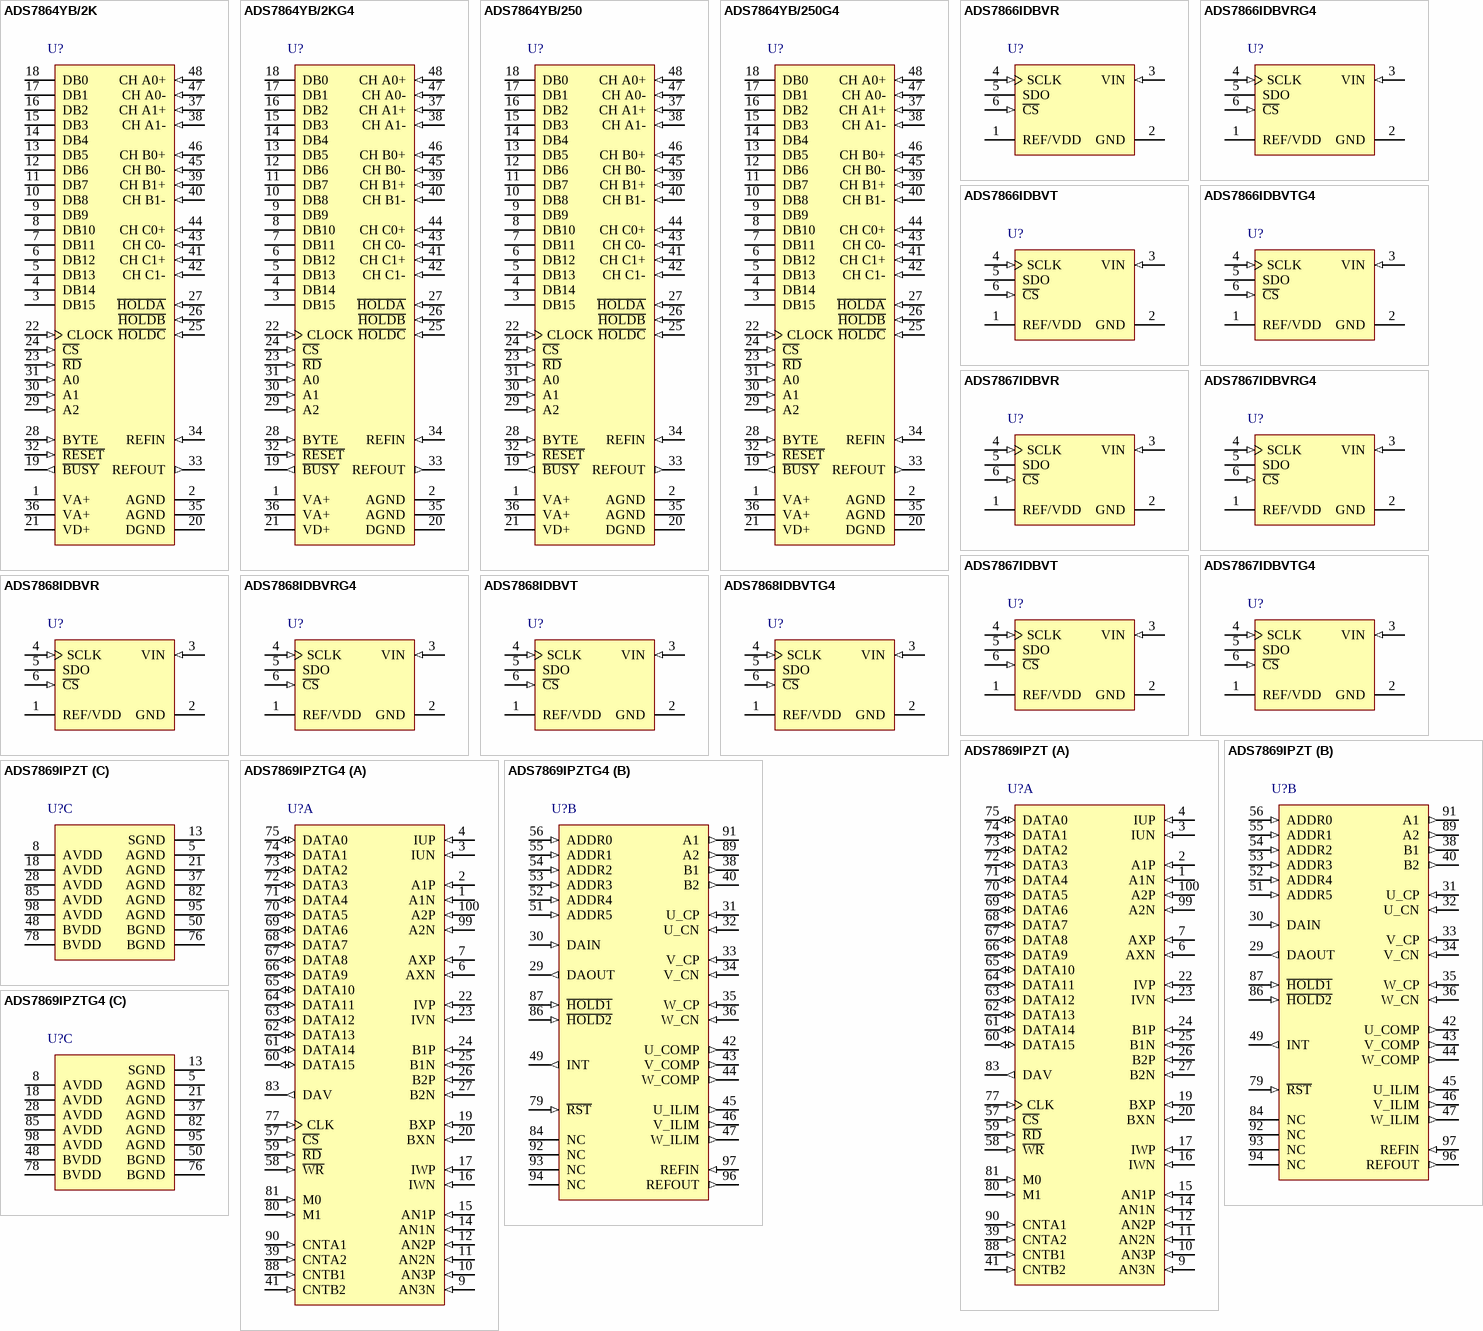
[diagram p68: symbols ADS7864YB/2K to ADS7869IPZTG4]

## ADS7864YB/2K
designator U?
500 kHz, 12-Bit, 6-Channel Simultaneous Sampling ADC, -40 to 85 degC, 48-pin QFP (PFB48), Green (RoHS & no Sb/Br); Manufacturer: Texas Instruments; PartNumber: ADS7864YB/2K; # Input Channels: 6; Analog Voltage AV/DD(Max)(V): 5.25; Analog Voltage AV/DD(Min)(V): 4.75; Architecture: SAR; INL(Max)(+/-LSB): 1; Interface: Parallel CMOS; Resolution(Bits): 12; Sample Rate (max)(SPS): 500k; SFDR(dB): 78; SINAD(dB): 71; SubFamily: Precision ADC (<=10MSPS); DatasheetVersion: SBAS141A; PackageVersion: 4073176/B, 10/1996; PackageReference: PFB48; PackageDescription: 48-Pin Plastic Flat Pack, Body 7 x 7 mm, Pitch 0.5 mm; Supplier 1: Digi-Key; Supplier Part Number 1: ADS7862Y/2KG4-ND; Digital Supply(Max)(V): 5.25; Digital Supply(Min)(V): 4.75; Eco-Plan: Green (RoHS & no Sb/Br); Mounting Technology: Surface Mount; Code_JEDEC: MS-026; ComponentLink1Description: Manufacturer URL; ComponentLink1URL: http://www.ti.com/; ComponentLink2Description: Datasheet; ComponentLink2URL: http://www.ti.com/general/docs/lit/getliterature.tsp?genericPartNumber=ADS7864&fileType=pdf; ComponentLink3Description: Package Specification; ComponentLink3URL: http://www.ti.com/lit/ml/mtqf019a/mtqf019a.pdf
footprint TI-PFB48_N (QFP, 48-Leads, Body 7x7mm, Pitch 0.5mm, IPC Medium Density)
footprint TI-PFB48_L (QFP, 48-Leads, Body 7x7mm, Pitch 0.5mm, IPC High Density)
footprint TI-PFB48_M (QFP, 48-Leads, Body 7x7mm, Pitch 0.5mm, IPC Low Density)
pins: 1 VA+ (power) "Analog Power Supply. Normally +5V.", 2 AGND (power) "Analog Ground", 3 DB15 (hiz) "Data Valid Output: ‘1’ for data valid; ‘0’ for invalid data.", 4 DB14 (hiz) "Channel Address Output Pin (see Table 2)", 5 DB13 (hiz) "Channel Address Output Pin (see Table 2)", 6 DB12 (hiz) "Channel Address Output Pin (see Table 2)", 7 DB11 (hiz) "Data Bit 11 - MSB", 8 DB10 (hiz) "Data Bit 10", 9 DB9 (hiz) "Data Bit 9", 10 DB8 (hiz) "Data Bit 8", 11 DB7 (hiz) "Data Bit 7", 12 DB6 (hiz) "Data Bit 6", 13 DB5 (hiz) "Data Bit 5", 14 DB4 (hiz) "Data Bit 4", 15 DB3 (hiz) "Data Bit 3", 16 DB2 (hiz) "Data Bit 2", 17 DB1 (hiz) "Data Bit 1", 18 DB0 (hiz) "Data Bit 0 - LSB", 19 ~{BUSY} (out) "Low when a conversion is in progress.", 20 DGND (power) "Digital Ground", 21 VD+ (power) "Digital Power Supply, +5VDC", 22 CLOCK (in) "An external clock must be applied to the CLOCK input.", 23 ~{RD} (in) "RD Input. Enables the parallel output when used in conjunction with chip select.", 24 ~{CS} (in) "Chip Select", 25 ~{HOLDC} (in) "Places Channels C0 and C1 in hold mode.", 26 ~{HOLDB} (in) "Places Channels B0 and B1 in hold mode.", 27 ~{HOLDA} (in) "Places Channels A0 and A1 in hold mode.", 28 BYTE (in) "2 x 8 Output Capability. Active high.", 29 A2 (in) "A2 Address/Mode Select Pin (see Table 3).", 30 A1 (in) "A1 Address/Mode Select Pin (see Table 3).", 31 A0 (in) "A0 Address/Mode Select Pin (see Table 3).", 32 ~{RESET} (in) "Reset Pin", 33 REFOUT (out) "Reference Out", 34 REFIN (in) "Reference In", 35 AGND (power) "Analog Ground", 36 VA+ (power) "Analog Power Supply. Normally +5V.", 37 CH A1+ (in) "Noninverting Input Channel A1", 38 CH A1- (in) "Inverting Input Channel A1", 39 CH B1+ (in) "Noninverting Input Channel B1", 40 CH B1- (in) "Inverting Input Channel B1", 41 CH C1+ (in) "Noninverting Input Channel C1", 42 CH C1- (in) "Inverting Input Channel C1", 43 CH C0- (in) "Inverting Input Channel C0", 44 CH C0+ (in) "Noninverting Input Channel C0", 45 CH B0- (in) "Inverting Input Channel B0", 46 CH B0+ (in) "Noninverting Input Channel B0", 47 CH A0- (in) "Inverting Input Channel A0", 48 CH A0+ (in) "Noninverting Input Channel A0"

## ADS7864YB/2KG4
designator U?
500 kHz, 12-Bit, 6-Channel Simultaneous Sampling ADC, -40 to 85 degC, 48-pin QFP (PFB48), Green (RoHS & no Sb/Br); Manufacturer: Texas Instruments; PartNumber: ADS7864YB/2KG4; # Input Channels: 6; Analog Voltage AV/DD(Max)(V): 5.25; Analog Voltage AV/DD(Min)(V): 4.75; Architecture: SAR; INL(Max)(+/-LSB): 1; Interface: Parallel CMOS; Resolution(Bits): 12; Sample Rate (max)(SPS): 500k; SFDR(dB): 78; SINAD(dB): 71; SubFamily: Precision ADC (<=10MSPS); DatasheetVersion: SBAS141A; PackageVersion: 4073176/B, 10/1996; PackageReference: PFB48; PackageDescription: 48-Pin Plastic Flat Pack, Body 7 x 7 mm, Pitch 0.5 mm; Supplier 1: Digi-Key; Supplier Part Number 1: ADS7862YBTR-ND; Digital Supply(Max)(V): 5.25; Digital Supply(Min)(V): 4.75; Eco-Plan: Green (RoHS & no Sb/Br); Mounting Technology: Surface Mount; Code_JEDEC: MS-026; ComponentLink1Description: Manufacturer URL; ComponentLink1URL: http://www.ti.com/; ComponentLink2Description: Datasheet; ComponentLink2URL: http://www.ti.com/general/docs/lit/getliterature.tsp?genericPartNumber=ADS7864&fileType=pdf; ComponentLink3Description: Package Specification; ComponentLink3URL: http://www.ti.com/lit/ml/mtqf019a/mtqf019a.pdf
footprint TI-PFB48_N (QFP, 48-Leads, Body 7x7mm, Pitch 0.5mm, IPC Medium Density)
footprint TI-PFB48_L (QFP, 48-Leads, Body 7x7mm, Pitch 0.5mm, IPC High Density)
footprint TI-PFB48_M (QFP, 48-Leads, Body 7x7mm, Pitch 0.5mm, IPC Low Density)
pins: 1 VA+ (power) "Analog Power Supply. Normally +5V.", 2 AGND (power) "Analog Ground", 3 DB15 (hiz) "Data Valid Output: ‘1’ for data valid; ‘0’ for invalid data.", 4 DB14 (hiz) "Channel Address Output Pin (see Table 2)", 5 DB13 (hiz) "Channel Address Output Pin (see Table 2)", 6 DB12 (hiz) "Channel Address Output Pin (see Table 2)", 7 DB11 (hiz) "Data Bit 11 - MSB", 8 DB10 (hiz) "Data Bit 10", 9 DB9 (hiz) "Data Bit 9", 10 DB8 (hiz) "Data Bit 8", 11 DB7 (hiz) "Data Bit 7", 12 DB6 (hiz) "Data Bit 6", 13 DB5 (hiz) "Data Bit 5", 14 DB4 (hiz) "Data Bit 4", 15 DB3 (hiz) "Data Bit 3", 16 DB2 (hiz) "Data Bit 2", 17 DB1 (hiz) "Data Bit 1", 18 DB0 (hiz) "Data Bit 0 - LSB", 19 ~{BUSY} (out) "Low when a conversion is in progress.", 20 DGND (power) "Digital Ground", 21 VD+ (power) "Digital Power Supply, +5VDC", 22 CLOCK (in) "An external clock must be applied to the CLOCK input.", 23 ~{RD} (in) "RD Input. Enables the parallel output when used in conjunction with chip select.", 24 ~{CS} (in) "Chip Select", 25 ~{HOLDC} (in) "Places Channels C0 and C1 in hold mode.", 26 ~{HOLDB} (in) "Places Channels B0 and B1 in hold mode.", 27 ~{HOLDA} (in) "Places Channels A0 and A1 in hold mode.", 28 BYTE (in) "2 x 8 Output Capability. Active high.", 29 A2 (in) "A2 Address/Mode Select Pin (see Table 3).", 30 A1 (in) "A1 Address/Mode Select Pin (see Table 3).", 31 A0 (in) "A0 Address/Mode Select Pin (see Table 3).", 32 ~{RESET} (in) "Reset Pin", 33 REFOUT (out) "Reference Out", 34 REFIN (in) "Reference In", 35 AGND (power) "Analog Ground", 36 VA+ (power) "Analog Power Supply. Normally +5V.", 37 CH A1+ (in) "Noninverting Input Channel A1", 38 CH A1- (in) "Inverting Input Channel A1", 39 CH B1+ (in) "Noninverting Input Channel B1", 40 CH B1- (in) "Inverting Input Channel B1", 41 CH C1+ (in) "Noninverting Input Channel C1", 42 CH C1- (in) "Inverting Input Channel C1", 43 CH C0- (in) "Inverting Input Channel C0", 44 CH C0+ (in) "Noninverting Input Channel C0", 45 CH B0- (in) "Inverting Input Channel B0", 46 CH B0+ (in) "Noninverting Input Channel B0", 47 CH A0- (in) "Inverting Input Channel A0", 48 CH A0+ (in) "Noninverting Input Channel A0"

## ADS7864YB/250
designator U?
500 kHz, 12-Bit, 6-Channel Simultaneous Sampling ADC, -40 to 85 degC, 48-pin QFP (PFB48), Green (RoHS & no Sb/Br); Manufacturer: Texas Instruments; PartNumber: ADS7864YB/250; # Input Channels: 6; Analog Voltage AV/DD(Max)(V): 5.25; Analog Voltage AV/DD(Min)(V): 4.75; Architecture: SAR; INL(Max)(+/-LSB): 1; Interface: Parallel CMOS; Resolution(Bits): 12; Sample Rate (max)(SPS): 500k; SFDR(dB): 78; SINAD(dB): 71; SubFamily: Precision ADC (<=10MSPS); DatasheetVersion: SBAS141A; PackageVersion: 4073176/B, 10/1996; PackageReference: PFB48; PackageDescription: 48-Pin Plastic Flat Pack, Body 7 x 7 mm, Pitch 0.5 mm; Supplier 1: Digi-Key; Supplier Part Number 1: ADS7862YB/250G4-ND; Digital Supply(Max)(V): 5.25; Digital Supply(Min)(V): 4.75; Eco-Plan: Green (RoHS & no Sb/Br); Mounting Technology: Surface Mount; Code_JEDEC: MS-026; ComponentLink1Description: Manufacturer URL; ComponentLink1URL: http://www.ti.com/; ComponentLink2Description: Datasheet; ComponentLink2URL: http://www.ti.com/general/docs/lit/getliterature.tsp?genericPartNumber=ADS7864&fileType=pdf; ComponentLink3Description: Package Specification; ComponentLink3URL: http://www.ti.com/lit/ml/mtqf019a/mtqf019a.pdf
footprint TI-PFB48_N (QFP, 48-Leads, Body 7x7mm, Pitch 0.5mm, IPC Medium Density)
footprint TI-PFB48_L (QFP, 48-Leads, Body 7x7mm, Pitch 0.5mm, IPC High Density)
footprint TI-PFB48_M (QFP, 48-Leads, Body 7x7mm, Pitch 0.5mm, IPC Low Density)
pins: 1 VA+ (power) "Analog Power Supply. Normally +5V.", 2 AGND (power) "Analog Ground", 3 DB15 (hiz) "Data Valid Output: ‘1’ for data valid; ‘0’ for invalid data.", 4 DB14 (hiz) "Channel Address Output Pin (see Table 2)", 5 DB13 (hiz) "Channel Address Output Pin (see Table 2)", 6 DB12 (hiz) "Channel Address Output Pin (see Table 2)", 7 DB11 (hiz) "Data Bit 11 - MSB", 8 DB10 (hiz) "Data Bit 10", 9 DB9 (hiz) "Data Bit 9", 10 DB8 (hiz) "Data Bit 8", 11 DB7 (hiz) "Data Bit 7", 12 DB6 (hiz) "Data Bit 6", 13 DB5 (hiz) "Data Bit 5", 14 DB4 (hiz) "Data Bit 4", 15 DB3 (hiz) "Data Bit 3", 16 DB2 (hiz) "Data Bit 2", 17 DB1 (hiz) "Data Bit 1", 18 DB0 (hiz) "Data Bit 0 - LSB", 19 ~{BUSY} (out) "Low when a conversion is in progress.", 20 DGND (power) "Digital Ground", 21 VD+ (power) "Digital Power Supply, +5VDC", 22 CLOCK (in) "An external clock must be applied to the CLOCK input.", 23 ~{RD} (in) "RD Input. Enables the parallel output when used in conjunction with chip select.", 24 ~{CS} (in) "Chip Select", 25 ~{HOLDC} (in) "Places Channels C0 and C1 in hold mode.", 26 ~{HOLDB} (in) "Places Channels B0 and B1 in hold mode.", 27 ~{HOLDA} (in) "Places Channels A0 and A1 in hold mode.", 28 BYTE (in) "2 x 8 Output Capability. Active high.", 29 A2 (in) "A2 Address/Mode Select Pin (see Table 3).", 30 A1 (in) "A1 Address/Mode Select Pin (see Table 3).", 31 A0 (in) "A0 Address/Mode Select Pin (see Table 3).", 32 ~{RESET} (in) "Reset Pin", 33 REFOUT (out) "Reference Out", 34 REFIN (in) "Reference In", 35 AGND (power) "Analog Ground", 36 VA+ (power) "Analog Power Supply. Normally +5V.", 37 CH A1+ (in) "Noninverting Input Channel A1", 38 CH A1- (in) "Inverting Input Channel A1", 39 CH B1+ (in) "Noninverting Input Channel B1", 40 CH B1- (in) "Inverting Input Channel B1", 41 CH C1+ (in) "Noninverting Input Channel C1", 42 CH C1- (in) "Inverting Input Channel C1", 43 CH C0- (in) "Inverting Input Channel C0", 44 CH C0+ (in) "Noninverting Input Channel C0", 45 CH B0- (in) "Inverting Input Channel B0", 46 CH B0+ (in) "Noninverting Input Channel B0", 47 CH A0- (in) "Inverting Input Channel A0", 48 CH A0+ (in) "Noninverting Input Channel A0"